# Altium footprint library CSXOSC.PcbLib: 1 footprints
Each footprint in its own frame and in the unit in brackets; x right, y up, seen from the top. Pads: shape width x height; smd on the part's side, far side on the other; paste and mask are expansions set on the pad; w line width, h text height; cw(c..) or ccw(c..) is an arc to the next point about the centre after c.
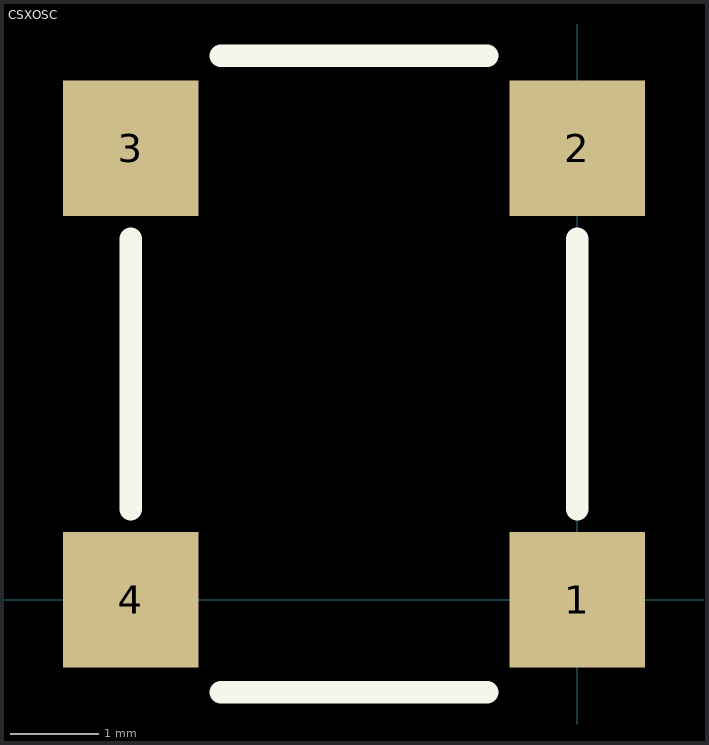
[diagram p0: the footprint, top view; thin cyan lines are the x and y axes]

## CSXOSC [mil]
height 65
pads (4):
  rect 60x60 smd: 1(0,0) 2(0,200) 3(-198,200) 4(-198,0)
TopOverlay:
  lines w10: -198,40 -198,160 ; -158,-41 -40,-41 ; -158,241 -40,241 ; 0,40 0,160
  text "." at 40,-7 h50
3D body: height 62.99, standoff 0, extent -203,-46 5,246